# Altium footprint library PPPC062LFBN-RC.PcbLib: 1 footprints
Each footprint in its own frame and in the unit in brackets; x right, y up, seen from the top. Pads: shape width x height; smd on the part's side, far side on the other; paste and mask are expansions set on the pad; w line width, h text height; cw(c..) or ccw(c..) is an arc to the next point about the centre after c.
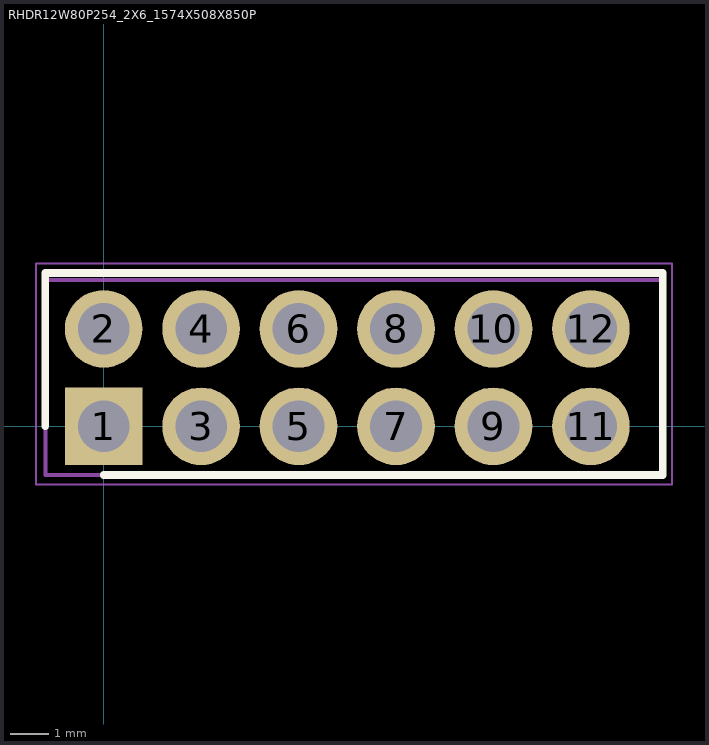
[diagram p0: the footprint, top view; thin cyan lines are the x and y axes]

## RHDR12W80P254_2X6_1574X508X850P [mm]
pads (12):
  rect 2.025x2.025 hole 1.35: 1(0,0)
  round 2.025 hole 1.35: 2(0,2.54) 3(2.54,0) 4(2.54,2.54) 5(5.08,0) 6(5.08,2.54) 7(7.62,0) 8(7.62,2.54) 9(10.16,0) 10(10.16,2.54) 11(12.7,0) 12(12.7,2.54)
Top Overlay:
  lines w0.2: -1.52,0 -1.52,3.995 14.57,3.995 14.57,-1.27 0,-1.27
Mechanical 13:
  lines w0.1: -1.52,-1.27 -1.52,3.81 14.57,3.81 14.57,-1.27 -1.52,-1.27
Mechanical 15:
  lines w0.05: -1.77,-1.52 -1.77,4.245 14.82,4.245 14.82,-1.52 -1.77,-1.52
3D body "PPPC062LFBN-RC.stp": height 8.5, standoff -3.5, extent -1.52,-1.27 14.22,3.81